# EAGLE library part 64113222 (library NetGeeks)
Pushbutton Switches 3PDT Stomp switch ON-ON 5A125VAC 9term Source: Datasheet <https://componentsearchengine.com/Datasheets/1/64113222.pdf>
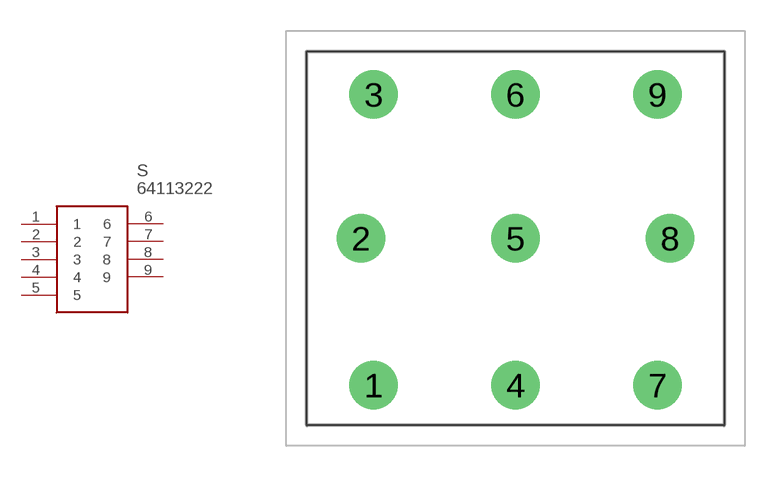
[diagram p1: symbol with the pads of 64113222; footprint 64113222]

Designator prefix S

## 64113222 (Arrow_Part_Number: 64113222; Description: Pushbutton Switches 3PDT Stomp switch ON-ON 5A125VAC 9term; Height: 40mm; Manufacturer_Name: Carling Technologies; Manufacturer_Part_Number: 64113222)  [64113222]
1  1
2  2
3  3
4  4
5  5
6  6
7  7
8  8
9  9

## Footprint 64113222 (pad centres in mm)
64113222
drill 1.57 pad 2.355: 1 -6.91,-7.16; 2 -7.518,0; 3 -6.91,7.01; 4 0,-7.16; 5 0,0; 6 0,7.01; 7 6.91,-7.16; 8 7.518,0; 9 6.91,7.01